# Altium schematic symbol library SparkFun-IC-Microcontroller.SCHLIB: 89 symbols (part 3 of 3)
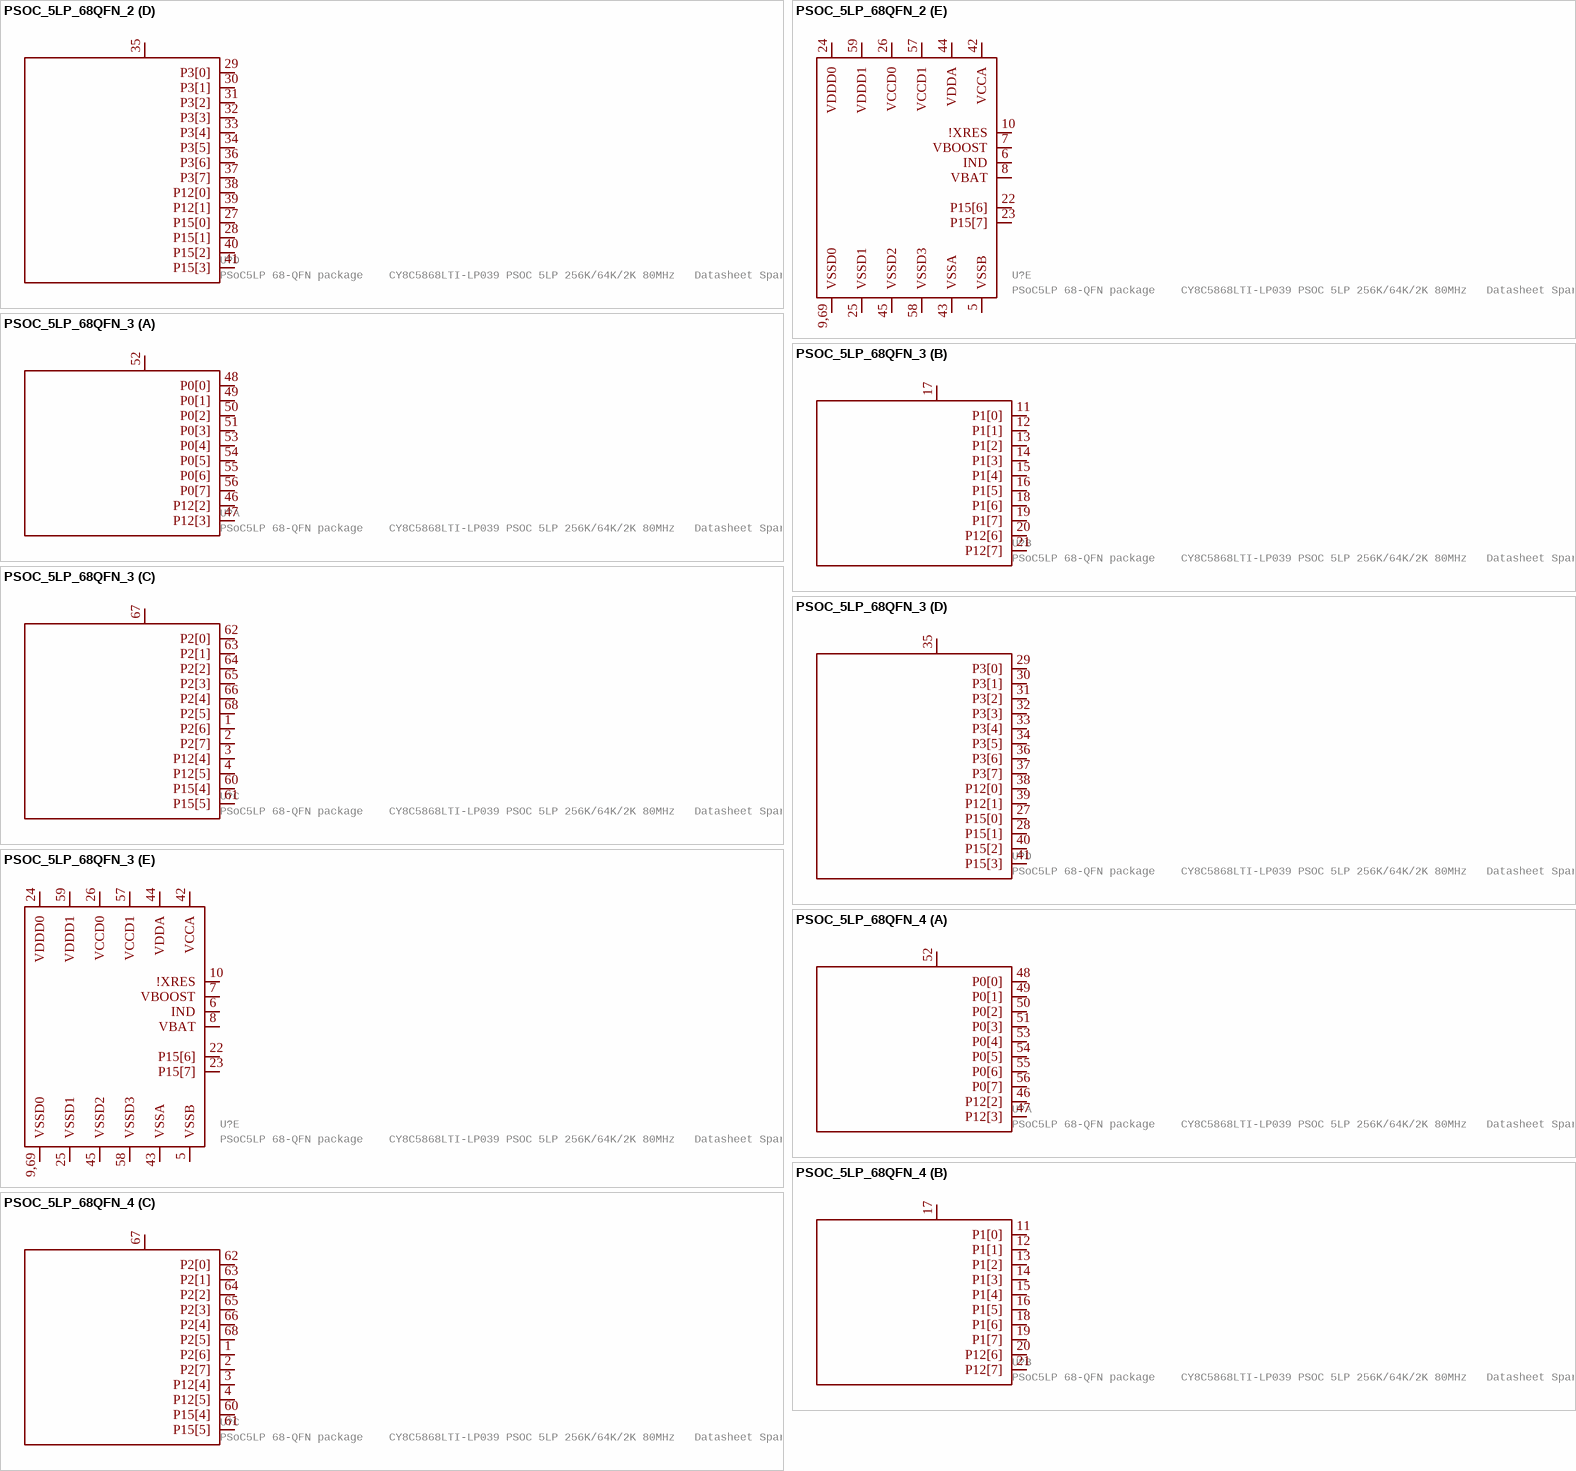
[diagram p26: symbols PSOC_5LP_68QFN_2 to PSOC_5LP_68QFN_4]

## PSOC_5LP_68QFN_2
designator U?, comment PSoC5LP 68-QFN package    CY8C5868LTI-LP039 PSOC 5LP 256K/64K/2K 80MHz   Datasheet SparkFun Products  FreeSoC2 Development Board - PSoC5LP (DEV-13229) -- Involved with change to new unposted revision
GateName_1: G1; SymbolName_1: CY8C58LP_68QFN_VDDIO0; GateName_2: G2; SymbolName_2: CY8C58LP_68QFN_VDDIO1; GateName_3: G3; SymbolName_3: CY8C58LP_68QFN_VDDIO2; GateName_4: G4; SymbolName_4: CY8C58LP_68QFN_VDDIO3; GateName_5: G5; SymbolName_5: CY8C58LP_68QFN_VGLOBAL; DeviceSetName: PSOC_5LP_68QFN; PROD_ID: IC-12391; LibraryName: SparkFun-IC-Microcontroller; Package: QFN-68
footprint QFN-68
part A pins: 46 P12[2] (io), 47 P12[3] (io), 48 P0[0] (io), 49 P0[1] (io), 50 P0[2] (io), 51 P0[3] (io), 52 VDDIO0 (io), 53 P0[4] (io), 54 P0[5] (io), 55 P0[6] (io), 56 P0[7] (io)
part B pins: 11 P1[0] (io), 12 P1[1] (io), 13 P1[2] (io), 14 P1[3] (io), 15 P1[4] (io), 16 P1[5] (io), 17 VDDIO1 (io), 18 P1[6] (io), 19 P1[7] (io), 20 P12[6] (io), 21 P12[7] (io)
part C pins: 1 P2[6] (io), 2 P2[7] (io), 3 P12[4] (io), 4 P12[5] (io), 60 P15[4] (io), 61 P15[5] (io), 62 P2[0] (io), 63 P2[1] (io), 64 P2[2] (io), 65 P2[3] (io), 66 P2[4] (io), 67 VDDIO2 (io), 68 P2[5] (io)
part D pins: 27 P15[0] (io), 28 P15[1] (io), 29 P3[0] (io), 30 P3[1] (io), 31 P3[2] (io), 32 P3[3] (io), 33 P3[4] (io), 34 P3[5] (io), 35 VDDIO3 (io), 36 P3[6] (io), 37 P3[7] (io), 38 P12[0] (io), 39 P12[1] (io), 40 P15[2] (io), 41 P15[3] (io)
part E pins: 5 VSSB (io), 6 IND (io), 7 VBOOST (io), 8 VBAT (io), 9,69 VSSD0 (io), 10 !XRES (io), 22 P15[6] (io), 23 P15[7] (io), 24 VDDD0 (io), 25 VSSD1 (io), 26 VCCD0 (io), 42 VCCA (io), 43 VSSA (io), 44 VDDA (io), 45 VSSD2 (io), 57 VCCD1 (io), 58 VSSD3 (io), 59 VDDD1 (io)

## PSOC_5LP_68QFN_3
designator U?, comment PSoC5LP 68-QFN package    CY8C5868LTI-LP039 PSOC 5LP 256K/64K/2K 80MHz   Datasheet SparkFun Products  FreeSoC2 Development Board - PSoC5LP (DEV-13229) -- Involved with change to new unposted revision
GateName_1: G1; SymbolName_1: CY8C58LP_68QFN_VDDIO0; GateName_2: G2; SymbolName_2: CY8C58LP_68QFN_VDDIO1; GateName_3: G3; SymbolName_3: CY8C58LP_68QFN_VDDIO2; GateName_4: G4; SymbolName_4: CY8C58LP_68QFN_VDDIO3; GateName_5: G5; SymbolName_5: CY8C58LP_68QFN_VGLOBAL; DeviceSetName: PSOC_5LP_68QFN; PROD_ID: IC-12391; LibraryName: SparkFun-IC-Microcontroller; Package: QFN-68
footprint QFN-68
part A pins: 46 P12[2] (io), 47 P12[3] (io), 48 P0[0] (io), 49 P0[1] (io), 50 P0[2] (io), 51 P0[3] (io), 52 VDDIO0 (io), 53 P0[4] (io), 54 P0[5] (io), 55 P0[6] (io), 56 P0[7] (io)
part B pins: 11 P1[0] (io), 12 P1[1] (io), 13 P1[2] (io), 14 P1[3] (io), 15 P1[4] (io), 16 P1[5] (io), 17 VDDIO1 (io), 18 P1[6] (io), 19 P1[7] (io), 20 P12[6] (io), 21 P12[7] (io)
part C pins: 1 P2[6] (io), 2 P2[7] (io), 3 P12[4] (io), 4 P12[5] (io), 60 P15[4] (io), 61 P15[5] (io), 62 P2[0] (io), 63 P2[1] (io), 64 P2[2] (io), 65 P2[3] (io), 66 P2[4] (io), 67 VDDIO2 (io), 68 P2[5] (io)
part D pins: 27 P15[0] (io), 28 P15[1] (io), 29 P3[0] (io), 30 P3[1] (io), 31 P3[2] (io), 32 P3[3] (io), 33 P3[4] (io), 34 P3[5] (io), 35 VDDIO3 (io), 36 P3[6] (io), 37 P3[7] (io), 38 P12[0] (io), 39 P12[1] (io), 40 P15[2] (io), 41 P15[3] (io)
part E pins: 5 VSSB (io), 6 IND (io), 7 VBOOST (io), 8 VBAT (io), 9,69 VSSD0 (io), 10 !XRES (io), 22 P15[6] (io), 23 P15[7] (io), 24 VDDD0 (io), 25 VSSD1 (io), 26 VCCD0 (io), 42 VCCA (io), 43 VSSA (io), 44 VDDA (io), 45 VSSD2 (io), 57 VCCD1 (io), 58 VSSD3 (io), 59 VDDD1 (io)

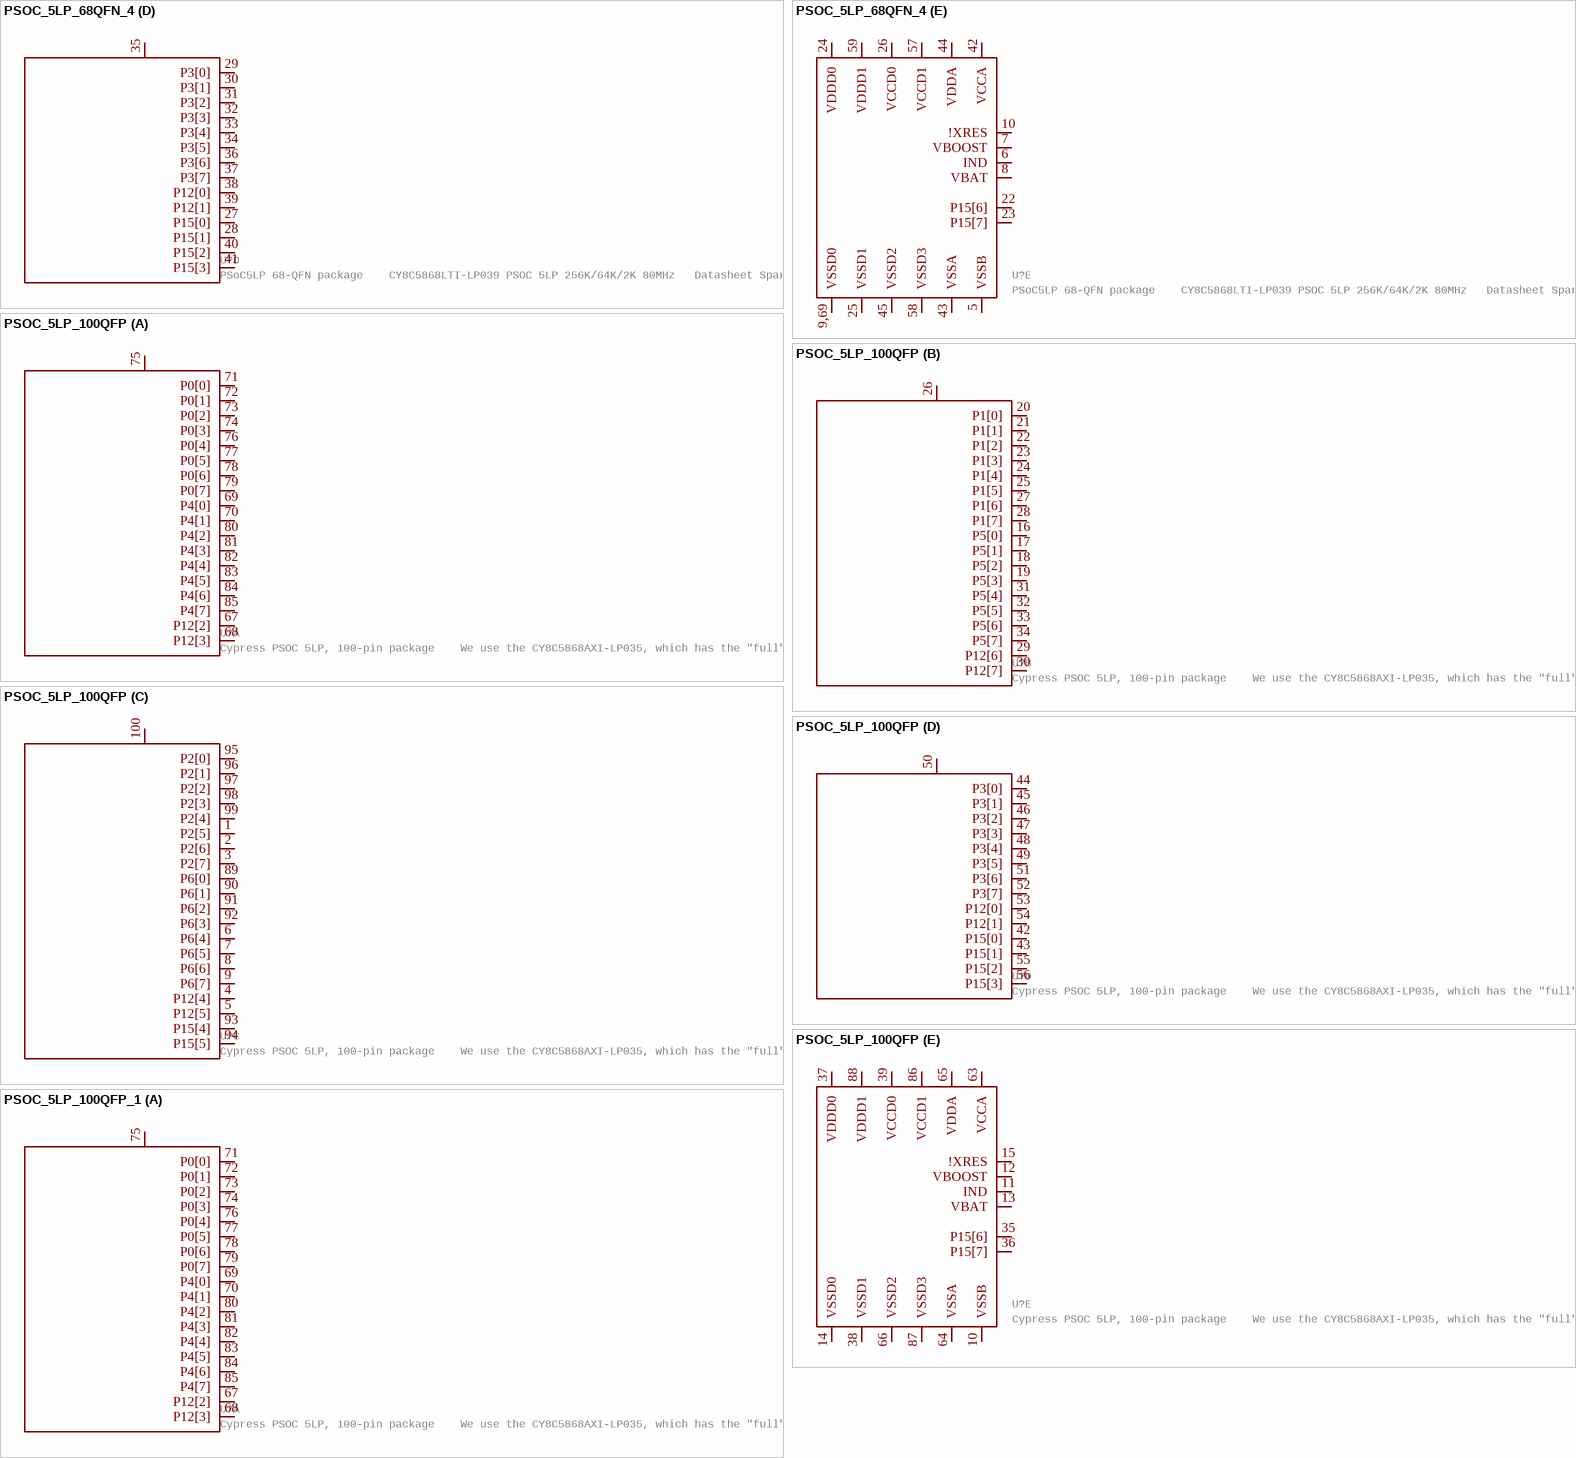
[diagram p18: symbols PSOC_5LP_68QFN_4 to PSOC_5LP_100QFP_1]

## PSOC_5LP_68QFN_4
designator U?, comment PSoC5LP 68-QFN package    CY8C5868LTI-LP039 PSOC 5LP 256K/64K/2K 80MHz   Datasheet SparkFun Products  FreeSoC2 Development Board - PSoC5LP (DEV-13229) -- Involved with change to new unposted revision
GateName_1: G1; SymbolName_1: CY8C58LP_68QFN_VDDIO0; GateName_2: G2; SymbolName_2: CY8C58LP_68QFN_VDDIO1; GateName_3: G3; SymbolName_3: CY8C58LP_68QFN_VDDIO2; GateName_4: G4; SymbolName_4: CY8C58LP_68QFN_VDDIO3; GateName_5: G5; SymbolName_5: CY8C58LP_68QFN_VGLOBAL; DeviceSetName: PSOC_5LP_68QFN; PROD_ID: IC-12391; LibraryName: SparkFun-IC-Microcontroller; Package: QFN-68
footprint QFN-68
part A pins: 46 P12[2] (io), 47 P12[3] (io), 48 P0[0] (io), 49 P0[1] (io), 50 P0[2] (io), 51 P0[3] (io), 52 VDDIO0 (io), 53 P0[4] (io), 54 P0[5] (io), 55 P0[6] (io), 56 P0[7] (io)
part B pins: 11 P1[0] (io), 12 P1[1] (io), 13 P1[2] (io), 14 P1[3] (io), 15 P1[4] (io), 16 P1[5] (io), 17 VDDIO1 (io), 18 P1[6] (io), 19 P1[7] (io), 20 P12[6] (io), 21 P12[7] (io)
part C pins: 1 P2[6] (io), 2 P2[7] (io), 3 P12[4] (io), 4 P12[5] (io), 60 P15[4] (io), 61 P15[5] (io), 62 P2[0] (io), 63 P2[1] (io), 64 P2[2] (io), 65 P2[3] (io), 66 P2[4] (io), 67 VDDIO2 (io), 68 P2[5] (io)
part D pins: 27 P15[0] (io), 28 P15[1] (io), 29 P3[0] (io), 30 P3[1] (io), 31 P3[2] (io), 32 P3[3] (io), 33 P3[4] (io), 34 P3[5] (io), 35 VDDIO3 (io), 36 P3[6] (io), 37 P3[7] (io), 38 P12[0] (io), 39 P12[1] (io), 40 P15[2] (io), 41 P15[3] (io)
part E pins: 5 VSSB (io), 6 IND (io), 7 VBOOST (io), 8 VBAT (io), 9,69 VSSD0 (io), 10 !XRES (io), 22 P15[6] (io), 23 P15[7] (io), 24 VDDD0 (io), 25 VSSD1 (io), 26 VCCD0 (io), 42 VCCA (io), 43 VSSA (io), 44 VDDA (io), 45 VSSD2 (io), 57 VCCD1 (io), 58 VSSD3 (io), 59 VDDD1 (io)

## PSOC_5LP_100QFP
designator U?, comment Cypress PSOC 5LP, 100-pin package    We use the CY8C5868AXI-LP035, which has the "full" feature set: - 256k flash - 64k SRAM - 2k EEPROM  - CAN - Full-speed USB - 67MHz operation   Datasheet SparkFun Products  FreeSoC2 Development Board - PSoC5LP (DEV-13229) -- Involved with change to new unposted revision
GateName_1: G1; SymbolName_1: CY8C58LP_100QFP_VDDIO0; GateName_2: G2; SymbolName_2: CY8C58LP_100QFP_VDDIO1; GateName_3: G3; SymbolName_3: CY8C58LP_100QFP_VDDIO2; GateName_4: G4; SymbolName_4: CY8C58LP_100QFP_VDDIO3; GateName_5: G5; SymbolName_5: CY8C58LP_100QFP_VGLOBAL; DeviceSetName: PSOC_5LP_100QFP; PROD_ID: IC-12190; LibraryName: SparkFun-IC-Microcontroller; Package: TQFP-100-14X14MM
footprint TQFP-100-14X14MM
part A pins: 67 P12[2] (io), 68 P12[3] (io), 69 P4[0] (io), 70 P4[1] (io), 71 P0[0] (io), 72 P0[1] (io), 73 P0[2] (io), 74 P0[3] (io), 75 VDDIO0 (io), 76 P0[4] (io), 77 P0[5] (io), 78 P0[6] (io), 79 P0[7] (io), 80 P4[2] (io), 81 P4[3] (io), 82 P4[4] (io), 83 P4[5] (io), 84 P4[6] (io), 85 P4[7] (io)
part B pins: 16 P5[0] (io), 17 P5[1] (io), 18 P5[2] (io), 19 P5[3] (io), 20 P1[0] (io), 21 P1[1] (io), 22 P1[2] (io), 23 P1[3] (io), 24 P1[4] (io), 25 P1[5] (io), 26 VDDIO1 (io), 27 P1[6] (io), 28 P1[7] (io), 29 P12[6] (io), 30 P12[7] (io), 31 P5[4] (io), 32 P5[5] (io), 33 P5[6] (io), 34 P5[7] (io)
part C pins: 1 P2[5] (io), 2 P2[6] (io), 3 P2[7] (io), 4 P12[4] (io), 5 P12[5] (io), 6 P6[4] (io), 7 P6[5] (io), 8 P6[6] (io), 9 P6[7] (io), 89 P6[0] (io), 90 P6[1] (io), 91 P6[2] (io), 92 P6[3] (io), 93 P15[4] (io), 94 P15[5] (io), 95 P2[0] (io), 96 P2[1] (io), 97 P2[2] (io), 98 P2[3] (io), 99 P2[4] (io), 100 VDDIO2 (io)
part D pins: 42 P15[0] (io), 43 P15[1] (io), 44 P3[0] (io), 45 P3[1] (io), 46 P3[2] (io), 47 P3[3] (io), 48 P3[4] (io), 49 P3[5] (io), 50 VDDIO3 (io), 51 P3[6] (io), 52 P3[7] (io), 53 P12[0] (io), 54 P12[1] (io), 55 P15[2] (io), 56 P15[3] (io)
part E pins: 10 VSSB (io), 11 IND (io), 12 VBOOST (io), 13 VBAT (io), 14 VSSD0 (io), 15 !XRES (io), 35 P15[6] (io), 36 P15[7] (io), 37 VDDD0 (io), 38 VSSD1 (io), 39 VCCD0 (io), 63 VCCA (io), 64 VSSA (io), 65 VDDA (io), 66 VSSD2 (io), 86 VCCD1 (io), 87 VSSD3 (io), 88 VDDD1 (io)

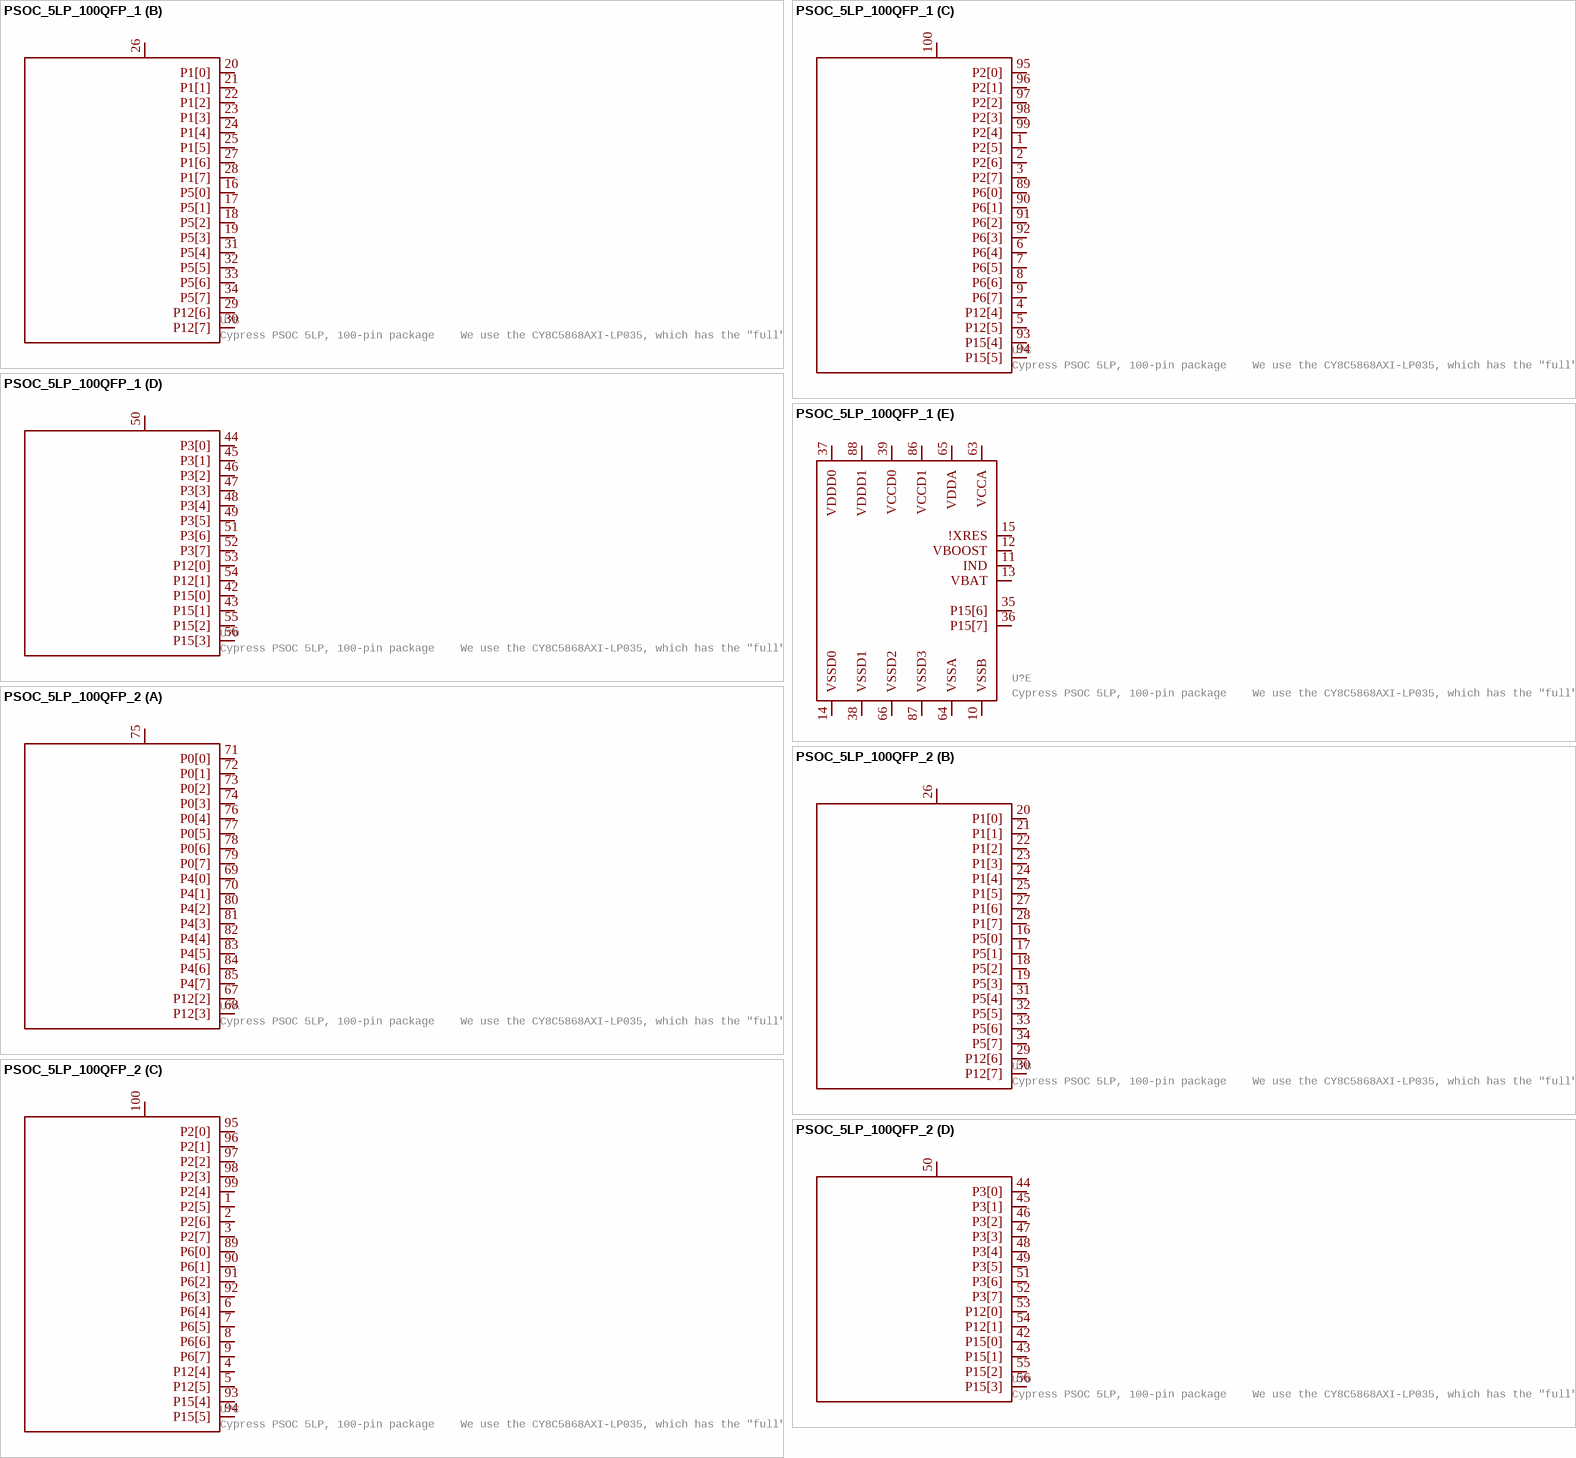
[diagram p19: symbols PSOC_5LP_100QFP_1 to PSOC_5LP_100QFP_2]

## PSOC_5LP_100QFP_1
designator U?, comment Cypress PSOC 5LP, 100-pin package    We use the CY8C5868AXI-LP035, which has the "full" feature set: - 256k flash - 64k SRAM - 2k EEPROM  - CAN - Full-speed USB - 67MHz operation   Datasheet SparkFun Products  FreeSoC2 Development Board - PSoC5LP (DEV-13229) -- Involved with change to new unposted revision
GateName_1: G1; SymbolName_1: CY8C58LP_100QFP_VDDIO0; GateName_2: G2; SymbolName_2: CY8C58LP_100QFP_VDDIO1; GateName_3: G3; SymbolName_3: CY8C58LP_100QFP_VDDIO2; GateName_4: G4; SymbolName_4: CY8C58LP_100QFP_VDDIO3; GateName_5: G5; SymbolName_5: CY8C58LP_100QFP_VGLOBAL; DeviceSetName: PSOC_5LP_100QFP; PROD_ID: IC-12190; LibraryName: SparkFun-IC-Microcontroller; Package: TQFP-100-14X14MM
footprint TQFP-100-14X14MM
part A pins: 67 P12[2] (io), 68 P12[3] (io), 69 P4[0] (io), 70 P4[1] (io), 71 P0[0] (io), 72 P0[1] (io), 73 P0[2] (io), 74 P0[3] (io), 75 VDDIO0 (io), 76 P0[4] (io), 77 P0[5] (io), 78 P0[6] (io), 79 P0[7] (io), 80 P4[2] (io), 81 P4[3] (io), 82 P4[4] (io), 83 P4[5] (io), 84 P4[6] (io), 85 P4[7] (io)
part B pins: 16 P5[0] (io), 17 P5[1] (io), 18 P5[2] (io), 19 P5[3] (io), 20 P1[0] (io), 21 P1[1] (io), 22 P1[2] (io), 23 P1[3] (io), 24 P1[4] (io), 25 P1[5] (io), 26 VDDIO1 (io), 27 P1[6] (io), 28 P1[7] (io), 29 P12[6] (io), 30 P12[7] (io), 31 P5[4] (io), 32 P5[5] (io), 33 P5[6] (io), 34 P5[7] (io)
part C pins: 1 P2[5] (io), 2 P2[6] (io), 3 P2[7] (io), 4 P12[4] (io), 5 P12[5] (io), 6 P6[4] (io), 7 P6[5] (io), 8 P6[6] (io), 9 P6[7] (io), 89 P6[0] (io), 90 P6[1] (io), 91 P6[2] (io), 92 P6[3] (io), 93 P15[4] (io), 94 P15[5] (io), 95 P2[0] (io), 96 P2[1] (io), 97 P2[2] (io), 98 P2[3] (io), 99 P2[4] (io), 100 VDDIO2 (io)
part D pins: 42 P15[0] (io), 43 P15[1] (io), 44 P3[0] (io), 45 P3[1] (io), 46 P3[2] (io), 47 P3[3] (io), 48 P3[4] (io), 49 P3[5] (io), 50 VDDIO3 (io), 51 P3[6] (io), 52 P3[7] (io), 53 P12[0] (io), 54 P12[1] (io), 55 P15[2] (io), 56 P15[3] (io)
part E pins: 10 VSSB (io), 11 IND (io), 12 VBOOST (io), 13 VBAT (io), 14 VSSD0 (io), 15 !XRES (io), 35 P15[6] (io), 36 P15[7] (io), 37 VDDD0 (io), 38 VSSD1 (io), 39 VCCD0 (io), 63 VCCA (io), 64 VSSA (io), 65 VDDA (io), 66 VSSD2 (io), 86 VCCD1 (io), 87 VSSD3 (io), 88 VDDD1 (io)

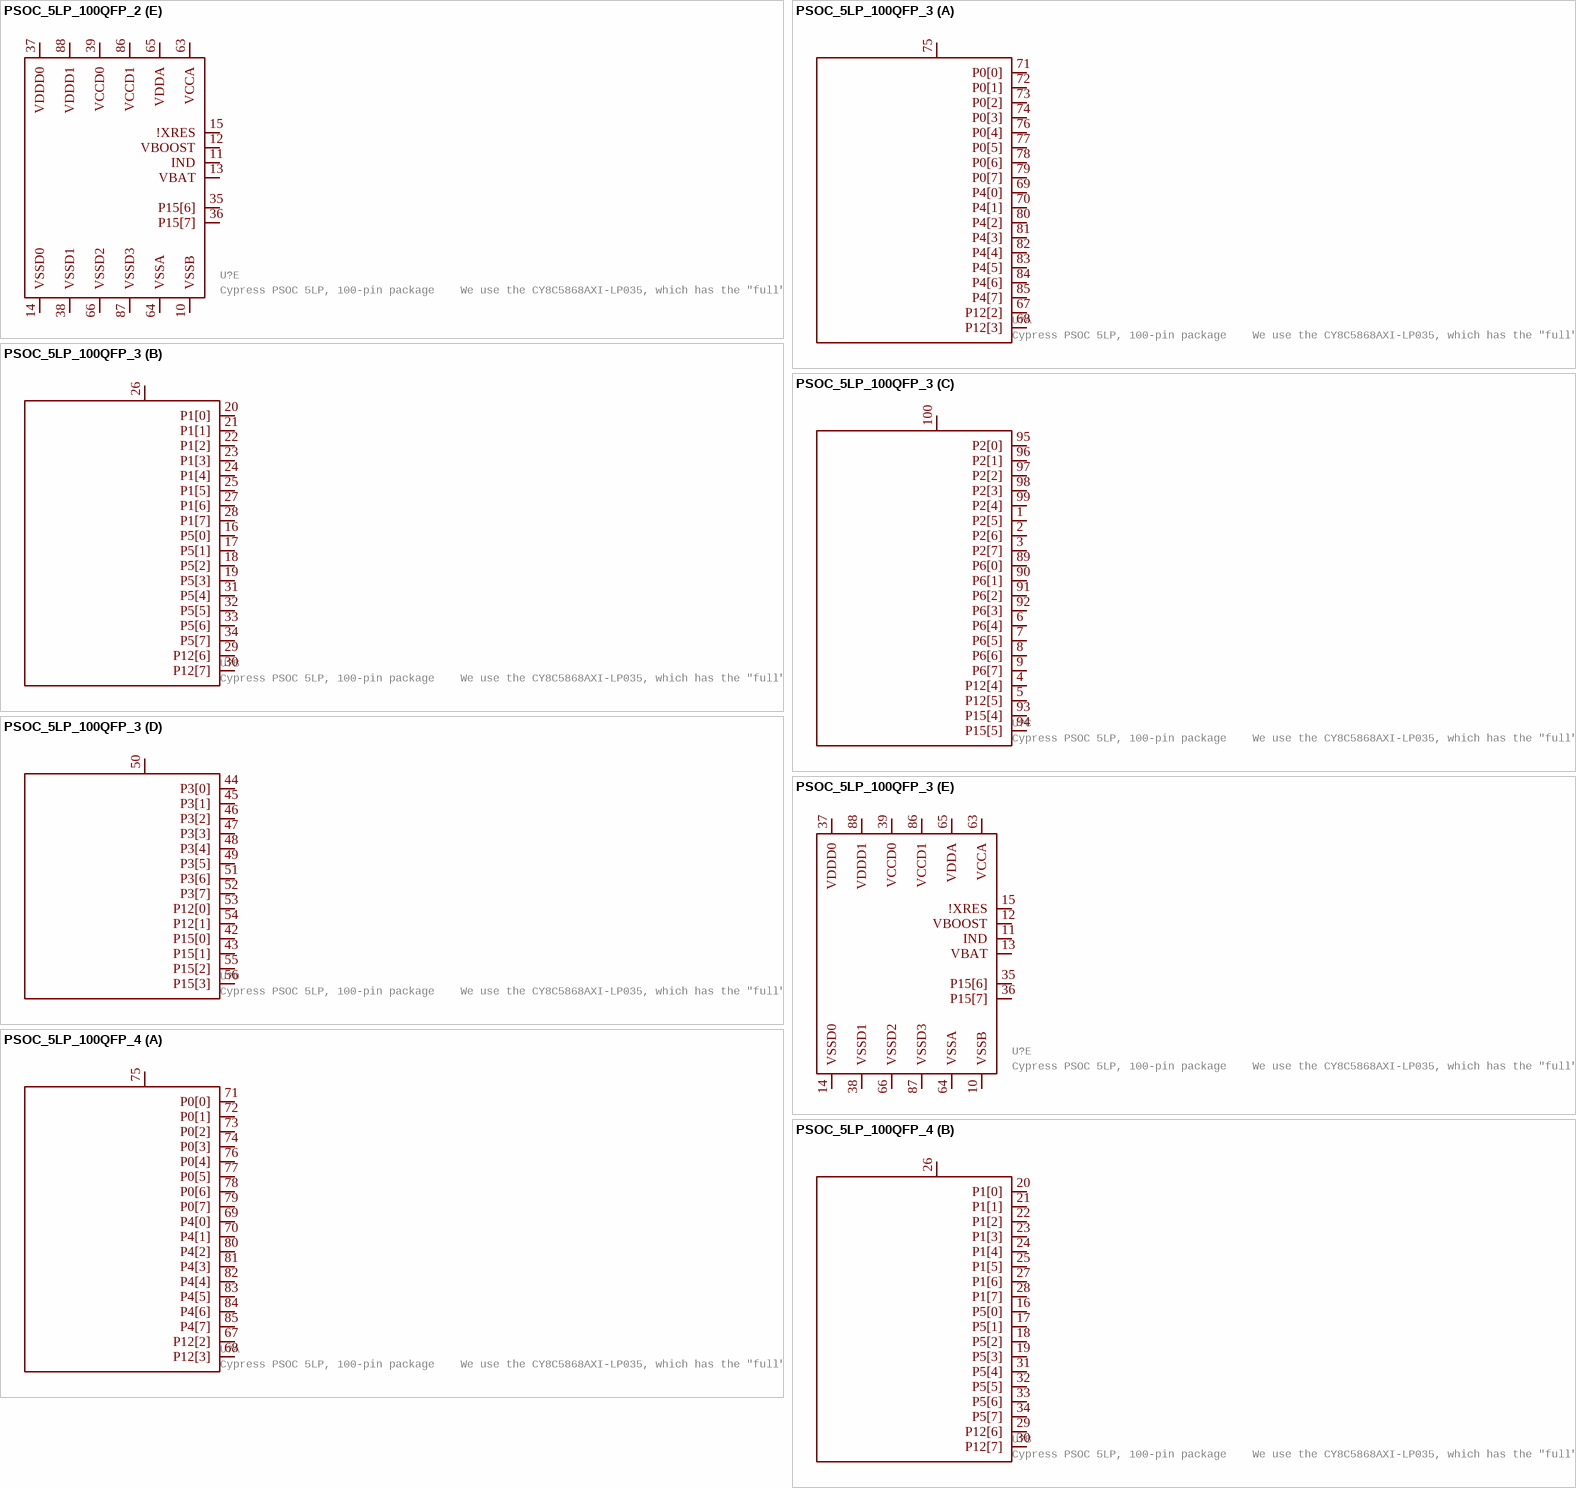
[diagram p20: symbols PSOC_5LP_100QFP_2 to PSOC_5LP_100QFP_4]

## PSOC_5LP_100QFP_2
designator U?, comment Cypress PSOC 5LP, 100-pin package    We use the CY8C5868AXI-LP035, which has the "full" feature set: - 256k flash - 64k SRAM - 2k EEPROM  - CAN - Full-speed USB - 67MHz operation   Datasheet SparkFun Products  FreeSoC2 Development Board - PSoC5LP (DEV-13229) -- Involved with change to new unposted revision
GateName_1: G1; SymbolName_1: CY8C58LP_100QFP_VDDIO0; GateName_2: G2; SymbolName_2: CY8C58LP_100QFP_VDDIO1; GateName_3: G3; SymbolName_3: CY8C58LP_100QFP_VDDIO2; GateName_4: G4; SymbolName_4: CY8C58LP_100QFP_VDDIO3; GateName_5: G5; SymbolName_5: CY8C58LP_100QFP_VGLOBAL; DeviceSetName: PSOC_5LP_100QFP; PROD_ID: IC-12190; LibraryName: SparkFun-IC-Microcontroller; Package: TQFP-100-14X14MM
footprint TQFP-100-14X14MM
part A pins: 67 P12[2] (io), 68 P12[3] (io), 69 P4[0] (io), 70 P4[1] (io), 71 P0[0] (io), 72 P0[1] (io), 73 P0[2] (io), 74 P0[3] (io), 75 VDDIO0 (io), 76 P0[4] (io), 77 P0[5] (io), 78 P0[6] (io), 79 P0[7] (io), 80 P4[2] (io), 81 P4[3] (io), 82 P4[4] (io), 83 P4[5] (io), 84 P4[6] (io), 85 P4[7] (io)
part B pins: 16 P5[0] (io), 17 P5[1] (io), 18 P5[2] (io), 19 P5[3] (io), 20 P1[0] (io), 21 P1[1] (io), 22 P1[2] (io), 23 P1[3] (io), 24 P1[4] (io), 25 P1[5] (io), 26 VDDIO1 (io), 27 P1[6] (io), 28 P1[7] (io), 29 P12[6] (io), 30 P12[7] (io), 31 P5[4] (io), 32 P5[5] (io), 33 P5[6] (io), 34 P5[7] (io)
part C pins: 1 P2[5] (io), 2 P2[6] (io), 3 P2[7] (io), 4 P12[4] (io), 5 P12[5] (io), 6 P6[4] (io), 7 P6[5] (io), 8 P6[6] (io), 9 P6[7] (io), 89 P6[0] (io), 90 P6[1] (io), 91 P6[2] (io), 92 P6[3] (io), 93 P15[4] (io), 94 P15[5] (io), 95 P2[0] (io), 96 P2[1] (io), 97 P2[2] (io), 98 P2[3] (io), 99 P2[4] (io), 100 VDDIO2 (io)
part D pins: 42 P15[0] (io), 43 P15[1] (io), 44 P3[0] (io), 45 P3[1] (io), 46 P3[2] (io), 47 P3[3] (io), 48 P3[4] (io), 49 P3[5] (io), 50 VDDIO3 (io), 51 P3[6] (io), 52 P3[7] (io), 53 P12[0] (io), 54 P12[1] (io), 55 P15[2] (io), 56 P15[3] (io)
part E pins: 10 VSSB (io), 11 IND (io), 12 VBOOST (io), 13 VBAT (io), 14 VSSD0 (io), 15 !XRES (io), 35 P15[6] (io), 36 P15[7] (io), 37 VDDD0 (io), 38 VSSD1 (io), 39 VCCD0 (io), 63 VCCA (io), 64 VSSA (io), 65 VDDA (io), 66 VSSD2 (io), 86 VCCD1 (io), 87 VSSD3 (io), 88 VDDD1 (io)

## PSOC_5LP_100QFP_3
designator U?, comment Cypress PSOC 5LP, 100-pin package    We use the CY8C5868AXI-LP035, which has the "full" feature set: - 256k flash - 64k SRAM - 2k EEPROM  - CAN - Full-speed USB - 67MHz operation   Datasheet SparkFun Products  FreeSoC2 Development Board - PSoC5LP (DEV-13229) -- Involved with change to new unposted revision
GateName_1: G1; SymbolName_1: CY8C58LP_100QFP_VDDIO0; GateName_2: G2; SymbolName_2: CY8C58LP_100QFP_VDDIO1; GateName_3: G3; SymbolName_3: CY8C58LP_100QFP_VDDIO2; GateName_4: G4; SymbolName_4: CY8C58LP_100QFP_VDDIO3; GateName_5: G5; SymbolName_5: CY8C58LP_100QFP_VGLOBAL; DeviceSetName: PSOC_5LP_100QFP; PROD_ID: IC-12190; LibraryName: SparkFun-IC-Microcontroller; Package: TQFP-100-14X14MM
footprint TQFP-100-14X14MM
part A pins: 67 P12[2] (io), 68 P12[3] (io), 69 P4[0] (io), 70 P4[1] (io), 71 P0[0] (io), 72 P0[1] (io), 73 P0[2] (io), 74 P0[3] (io), 75 VDDIO0 (io), 76 P0[4] (io), 77 P0[5] (io), 78 P0[6] (io), 79 P0[7] (io), 80 P4[2] (io), 81 P4[3] (io), 82 P4[4] (io), 83 P4[5] (io), 84 P4[6] (io), 85 P4[7] (io)
part B pins: 16 P5[0] (io), 17 P5[1] (io), 18 P5[2] (io), 19 P5[3] (io), 20 P1[0] (io), 21 P1[1] (io), 22 P1[2] (io), 23 P1[3] (io), 24 P1[4] (io), 25 P1[5] (io), 26 VDDIO1 (io), 27 P1[6] (io), 28 P1[7] (io), 29 P12[6] (io), 30 P12[7] (io), 31 P5[4] (io), 32 P5[5] (io), 33 P5[6] (io), 34 P5[7] (io)
part C pins: 1 P2[5] (io), 2 P2[6] (io), 3 P2[7] (io), 4 P12[4] (io), 5 P12[5] (io), 6 P6[4] (io), 7 P6[5] (io), 8 P6[6] (io), 9 P6[7] (io), 89 P6[0] (io), 90 P6[1] (io), 91 P6[2] (io), 92 P6[3] (io), 93 P15[4] (io), 94 P15[5] (io), 95 P2[0] (io), 96 P2[1] (io), 97 P2[2] (io), 98 P2[3] (io), 99 P2[4] (io), 100 VDDIO2 (io)
part D pins: 42 P15[0] (io), 43 P15[1] (io), 44 P3[0] (io), 45 P3[1] (io), 46 P3[2] (io), 47 P3[3] (io), 48 P3[4] (io), 49 P3[5] (io), 50 VDDIO3 (io), 51 P3[6] (io), 52 P3[7] (io), 53 P12[0] (io), 54 P12[1] (io), 55 P15[2] (io), 56 P15[3] (io)
part E pins: 10 VSSB (io), 11 IND (io), 12 VBOOST (io), 13 VBAT (io), 14 VSSD0 (io), 15 !XRES (io), 35 P15[6] (io), 36 P15[7] (io), 37 VDDD0 (io), 38 VSSD1 (io), 39 VCCD0 (io), 63 VCCA (io), 64 VSSA (io), 65 VDDA (io), 66 VSSD2 (io), 86 VCCD1 (io), 87 VSSD3 (io), 88 VDDD1 (io)

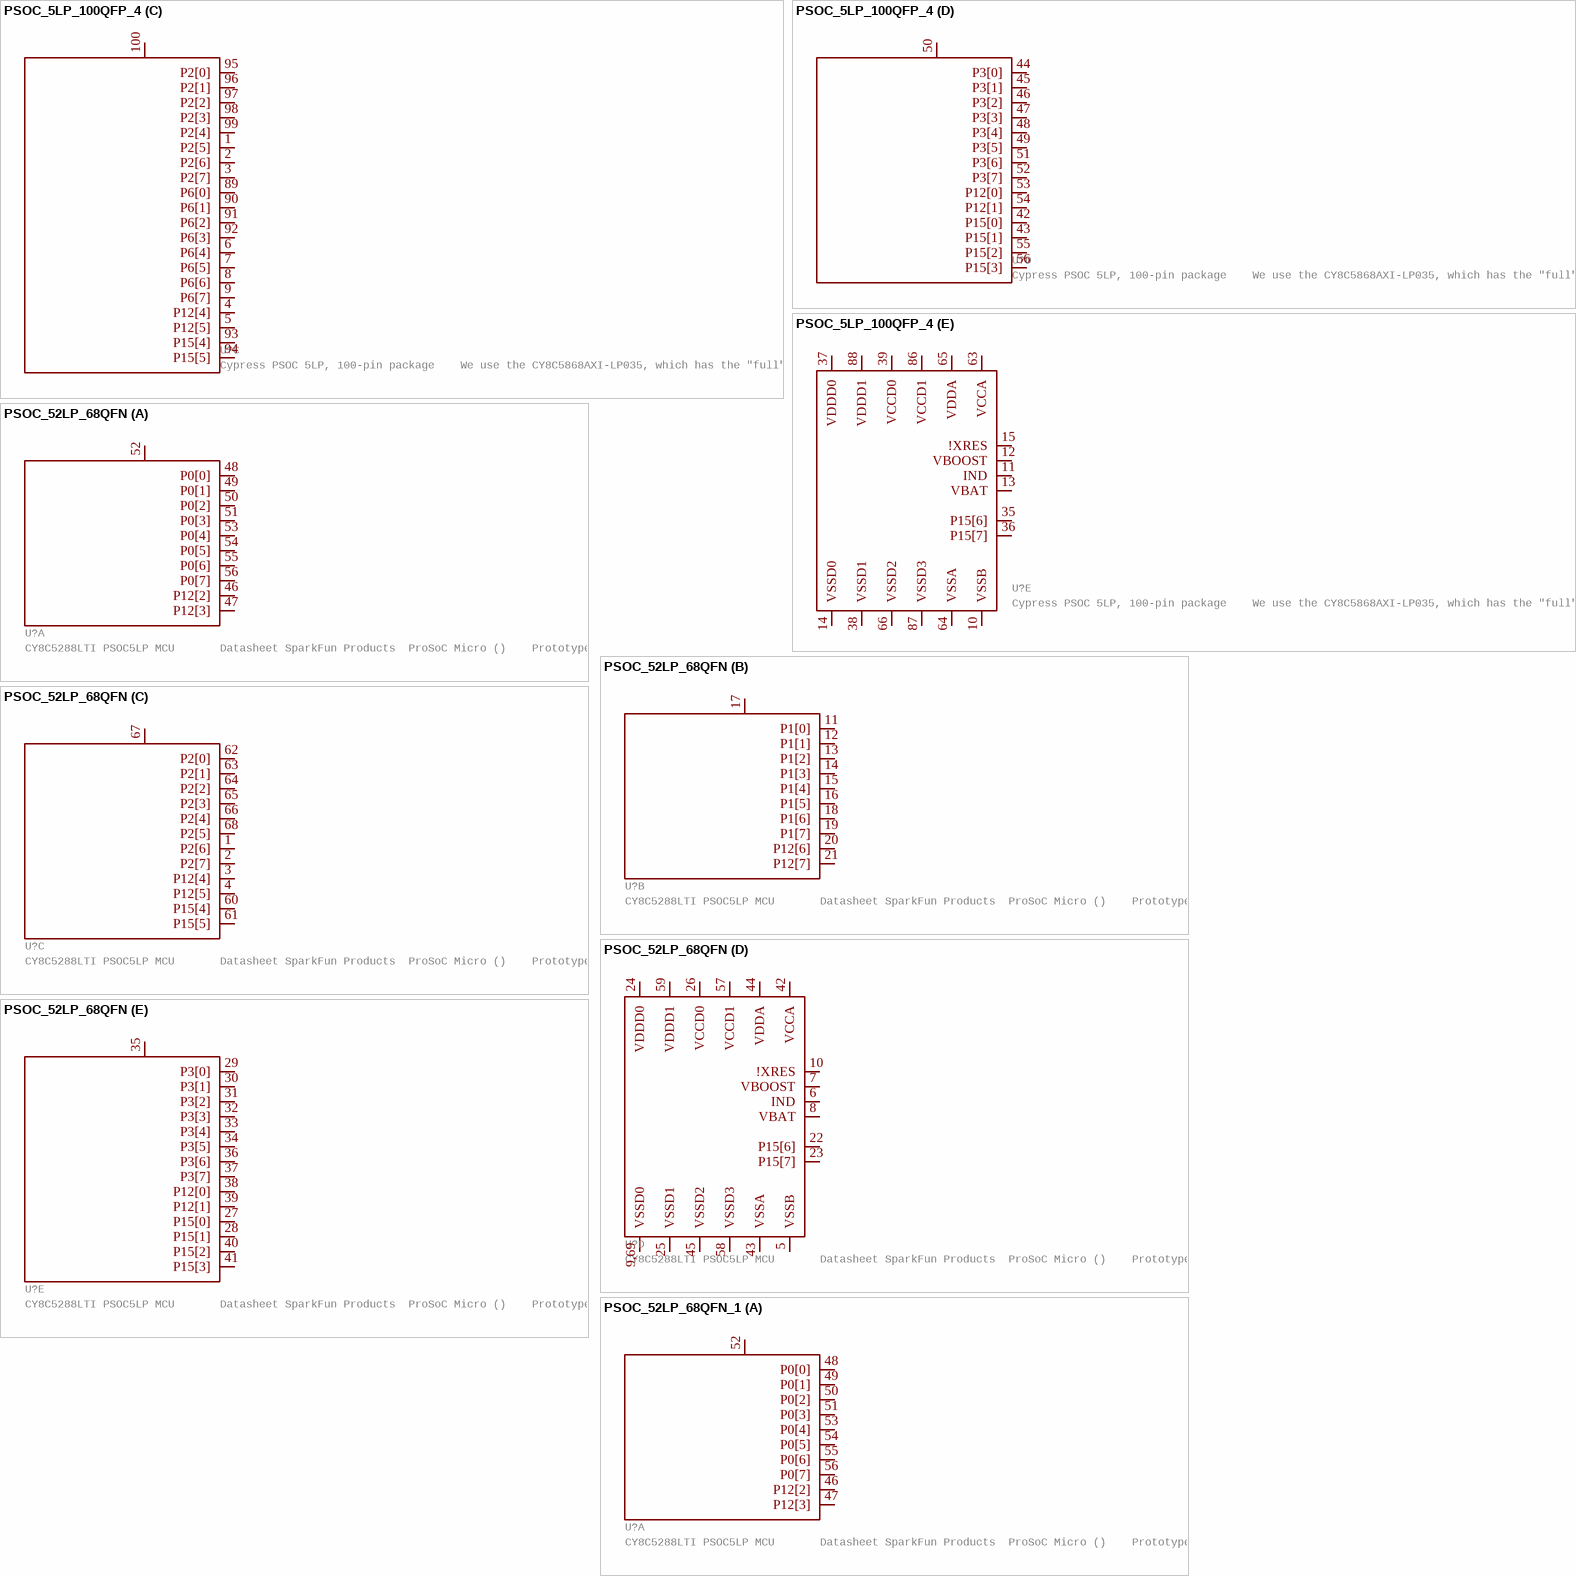
[diagram p21: symbols PSOC_5LP_100QFP_4 to PSOC_52LP_68QFN_1]

## PSOC_5LP_100QFP_4
designator U?, comment Cypress PSOC 5LP, 100-pin package    We use the CY8C5868AXI-LP035, which has the "full" feature set: - 256k flash - 64k SRAM - 2k EEPROM  - CAN - Full-speed USB - 67MHz operation   Datasheet SparkFun Products  FreeSoC2 Development Board - PSoC5LP (DEV-13229) -- Involved with change to new unposted revision
GateName_1: G1; SymbolName_1: CY8C58LP_100QFP_VDDIO0; GateName_2: G2; SymbolName_2: CY8C58LP_100QFP_VDDIO1; GateName_3: G3; SymbolName_3: CY8C58LP_100QFP_VDDIO2; GateName_4: G4; SymbolName_4: CY8C58LP_100QFP_VDDIO3; GateName_5: G5; SymbolName_5: CY8C58LP_100QFP_VGLOBAL; DeviceSetName: PSOC_5LP_100QFP; PROD_ID: IC-12190; LibraryName: SparkFun-IC-Microcontroller; Package: TQFP-100-14X14MM
footprint TQFP-100-14X14MM
part A pins: 67 P12[2] (io), 68 P12[3] (io), 69 P4[0] (io), 70 P4[1] (io), 71 P0[0] (io), 72 P0[1] (io), 73 P0[2] (io), 74 P0[3] (io), 75 VDDIO0 (io), 76 P0[4] (io), 77 P0[5] (io), 78 P0[6] (io), 79 P0[7] (io), 80 P4[2] (io), 81 P4[3] (io), 82 P4[4] (io), 83 P4[5] (io), 84 P4[6] (io), 85 P4[7] (io)
part B pins: 16 P5[0] (io), 17 P5[1] (io), 18 P5[2] (io), 19 P5[3] (io), 20 P1[0] (io), 21 P1[1] (io), 22 P1[2] (io), 23 P1[3] (io), 24 P1[4] (io), 25 P1[5] (io), 26 VDDIO1 (io), 27 P1[6] (io), 28 P1[7] (io), 29 P12[6] (io), 30 P12[7] (io), 31 P5[4] (io), 32 P5[5] (io), 33 P5[6] (io), 34 P5[7] (io)
part C pins: 1 P2[5] (io), 2 P2[6] (io), 3 P2[7] (io), 4 P12[4] (io), 5 P12[5] (io), 6 P6[4] (io), 7 P6[5] (io), 8 P6[6] (io), 9 P6[7] (io), 89 P6[0] (io), 90 P6[1] (io), 91 P6[2] (io), 92 P6[3] (io), 93 P15[4] (io), 94 P15[5] (io), 95 P2[0] (io), 96 P2[1] (io), 97 P2[2] (io), 98 P2[3] (io), 99 P2[4] (io), 100 VDDIO2 (io)
part D pins: 42 P15[0] (io), 43 P15[1] (io), 44 P3[0] (io), 45 P3[1] (io), 46 P3[2] (io), 47 P3[3] (io), 48 P3[4] (io), 49 P3[5] (io), 50 VDDIO3 (io), 51 P3[6] (io), 52 P3[7] (io), 53 P12[0] (io), 54 P12[1] (io), 55 P15[2] (io), 56 P15[3] (io)
part E pins: 10 VSSB (io), 11 IND (io), 12 VBOOST (io), 13 VBAT (io), 14 VSSD0 (io), 15 !XRES (io), 35 P15[6] (io), 36 P15[7] (io), 37 VDDD0 (io), 38 VSSD1 (io), 39 VCCD0 (io), 63 VCCA (io), 64 VSSA (io), 65 VDDA (io), 66 VSSD2 (io), 86 VCCD1 (io), 87 VSSD3 (io), 88 VDDD1 (io)

## PSOC_52LP_68QFN
designator U?, comment CY8C5288LTI PSOC5LP MCU       Datasheet SparkFun Products  ProSoC Micro ()    Prototype in process - do keep!
GateName_1: G1; SymbolName_1: CY8C52LP_68QFN_VDDIO0; GateName_2: G2; SymbolName_2: CY8C52LP_68QFN_VDDIO1; GateName_3: G3; SymbolName_3: CY8C52LP_68QFN_VDDIO2; GateName_4: G5; SymbolName_4: CY8C52LP_68QFN_VGLOBAL; GateName_5: G4; SymbolName_5: CY8C52LP_68QFN_VDDIO3; DeviceSetName: PSOC_52LP_68QFN; PROD_ID: IC-13261; LibraryName: SparkFun-IC-Microcontroller; Package: QFN-68
footprint QFN-68
part A pins: 46 P12[2] (io), 47 P12[3] (io), 48 P0[0] (io), 49 P0[1] (io), 50 P0[2] (io), 51 P0[3] (io), 52 VDDIO0 (io), 53 P0[4] (io), 54 P0[5] (io), 55 P0[6] (io), 56 P0[7] (io)
part B pins: 11 P1[0] (io), 12 P1[1] (io), 13 P1[2] (io), 14 P1[3] (io), 15 P1[4] (io), 16 P1[5] (io), 17 VDDIO1 (io), 18 P1[6] (io), 19 P1[7] (io), 20 P12[6] (io), 21 P12[7] (io)
part C pins: 1 P2[6] (io), 2 P2[7] (io), 3 P12[4] (io), 4 P12[5] (io), 60 P15[4] (io), 61 P15[5] (io), 62 P2[0] (io), 63 P2[1] (io), 64 P2[2] (io), 65 P2[3] (io), 66 P2[4] (io), 67 VDDIO2 (io), 68 P2[5] (io)
part D pins: 5 VSSB (io), 6 IND (io), 7 VBOOST (io), 8 VBAT (io), 9,69 VSSD0 (io), 10 !XRES (io), 22 P15[6] (io), 23 P15[7] (io), 24 VDDD0 (io), 25 VSSD1 (io), 26 VCCD0 (io), 42 VCCA (io), 43 VSSA (io), 44 VDDA (io), 45 VSSD2 (io), 57 VCCD1 (io), 58 VSSD3 (io), 59 VDDD1 (io)
part E pins: 27 P15[0] (io), 28 P15[1] (io), 29 P3[0] (io), 30 P3[1] (io), 31 P3[2] (io), 32 P3[3] (io), 33 P3[4] (io), 34 P3[5] (io), 35 VDDIO3 (io), 36 P3[6] (io), 37 P3[7] (io), 38 P12[0] (io), 39 P12[1] (io), 40 P15[2] (io), 41 P15[3] (io)

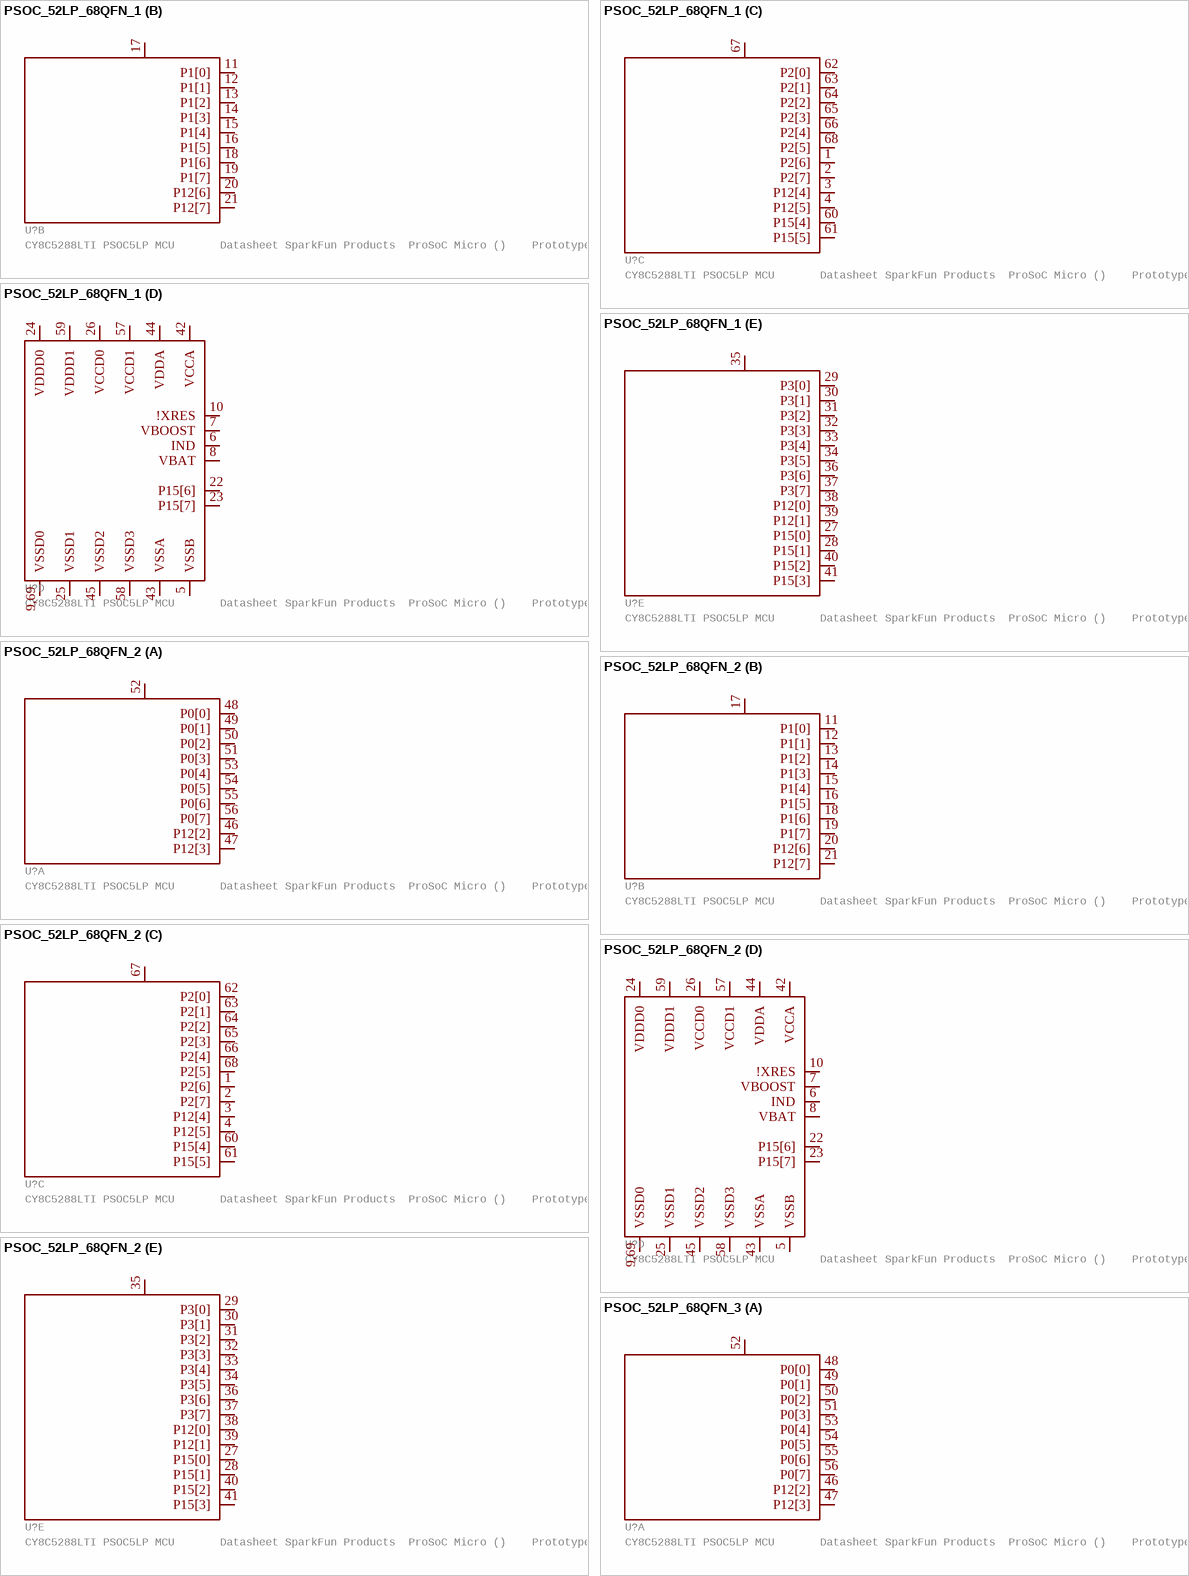
[diagram p22: symbols PSOC_52LP_68QFN_1 to PSOC_52LP_68QFN_3]

## PSOC_52LP_68QFN_1
designator U?, comment CY8C5288LTI PSOC5LP MCU       Datasheet SparkFun Products  ProSoC Micro ()    Prototype in process - do keep!
GateName_1: G1; SymbolName_1: CY8C52LP_68QFN_VDDIO0; GateName_2: G2; SymbolName_2: CY8C52LP_68QFN_VDDIO1; GateName_3: G3; SymbolName_3: CY8C52LP_68QFN_VDDIO2; GateName_4: G5; SymbolName_4: CY8C52LP_68QFN_VGLOBAL; GateName_5: G4; SymbolName_5: CY8C52LP_68QFN_VDDIO3; DeviceSetName: PSOC_52LP_68QFN; PROD_ID: IC-13261; LibraryName: SparkFun-IC-Microcontroller; Package: QFN-68
footprint QFN-68
part A pins: 46 P12[2] (io), 47 P12[3] (io), 48 P0[0] (io), 49 P0[1] (io), 50 P0[2] (io), 51 P0[3] (io), 52 VDDIO0 (io), 53 P0[4] (io), 54 P0[5] (io), 55 P0[6] (io), 56 P0[7] (io)
part B pins: 11 P1[0] (io), 12 P1[1] (io), 13 P1[2] (io), 14 P1[3] (io), 15 P1[4] (io), 16 P1[5] (io), 17 VDDIO1 (io), 18 P1[6] (io), 19 P1[7] (io), 20 P12[6] (io), 21 P12[7] (io)
part C pins: 1 P2[6] (io), 2 P2[7] (io), 3 P12[4] (io), 4 P12[5] (io), 60 P15[4] (io), 61 P15[5] (io), 62 P2[0] (io), 63 P2[1] (io), 64 P2[2] (io), 65 P2[3] (io), 66 P2[4] (io), 67 VDDIO2 (io), 68 P2[5] (io)
part D pins: 5 VSSB (io), 6 IND (io), 7 VBOOST (io), 8 VBAT (io), 9,69 VSSD0 (io), 10 !XRES (io), 22 P15[6] (io), 23 P15[7] (io), 24 VDDD0 (io), 25 VSSD1 (io), 26 VCCD0 (io), 42 VCCA (io), 43 VSSA (io), 44 VDDA (io), 45 VSSD2 (io), 57 VCCD1 (io), 58 VSSD3 (io), 59 VDDD1 (io)
part E pins: 27 P15[0] (io), 28 P15[1] (io), 29 P3[0] (io), 30 P3[1] (io), 31 P3[2] (io), 32 P3[3] (io), 33 P3[4] (io), 34 P3[5] (io), 35 VDDIO3 (io), 36 P3[6] (io), 37 P3[7] (io), 38 P12[0] (io), 39 P12[1] (io), 40 P15[2] (io), 41 P15[3] (io)

## PSOC_52LP_68QFN_2
designator U?, comment CY8C5288LTI PSOC5LP MCU       Datasheet SparkFun Products  ProSoC Micro ()    Prototype in process - do keep!
GateName_1: G1; SymbolName_1: CY8C52LP_68QFN_VDDIO0; GateName_2: G2; SymbolName_2: CY8C52LP_68QFN_VDDIO1; GateName_3: G3; SymbolName_3: CY8C52LP_68QFN_VDDIO2; GateName_4: G5; SymbolName_4: CY8C52LP_68QFN_VGLOBAL; GateName_5: G4; SymbolName_5: CY8C52LP_68QFN_VDDIO3; DeviceSetName: PSOC_52LP_68QFN; PROD_ID: IC-13261; LibraryName: SparkFun-IC-Microcontroller; Package: QFN-68
footprint QFN-68
part A pins: 46 P12[2] (io), 47 P12[3] (io), 48 P0[0] (io), 49 P0[1] (io), 50 P0[2] (io), 51 P0[3] (io), 52 VDDIO0 (io), 53 P0[4] (io), 54 P0[5] (io), 55 P0[6] (io), 56 P0[7] (io)
part B pins: 11 P1[0] (io), 12 P1[1] (io), 13 P1[2] (io), 14 P1[3] (io), 15 P1[4] (io), 16 P1[5] (io), 17 VDDIO1 (io), 18 P1[6] (io), 19 P1[7] (io), 20 P12[6] (io), 21 P12[7] (io)
part C pins: 1 P2[6] (io), 2 P2[7] (io), 3 P12[4] (io), 4 P12[5] (io), 60 P15[4] (io), 61 P15[5] (io), 62 P2[0] (io), 63 P2[1] (io), 64 P2[2] (io), 65 P2[3] (io), 66 P2[4] (io), 67 VDDIO2 (io), 68 P2[5] (io)
part D pins: 5 VSSB (io), 6 IND (io), 7 VBOOST (io), 8 VBAT (io), 9,69 VSSD0 (io), 10 !XRES (io), 22 P15[6] (io), 23 P15[7] (io), 24 VDDD0 (io), 25 VSSD1 (io), 26 VCCD0 (io), 42 VCCA (io), 43 VSSA (io), 44 VDDA (io), 45 VSSD2 (io), 57 VCCD1 (io), 58 VSSD3 (io), 59 VDDD1 (io)
part E pins: 27 P15[0] (io), 28 P15[1] (io), 29 P3[0] (io), 30 P3[1] (io), 31 P3[2] (io), 32 P3[3] (io), 33 P3[4] (io), 34 P3[5] (io), 35 VDDIO3 (io), 36 P3[6] (io), 37 P3[7] (io), 38 P12[0] (io), 39 P12[1] (io), 40 P15[2] (io), 41 P15[3] (io)

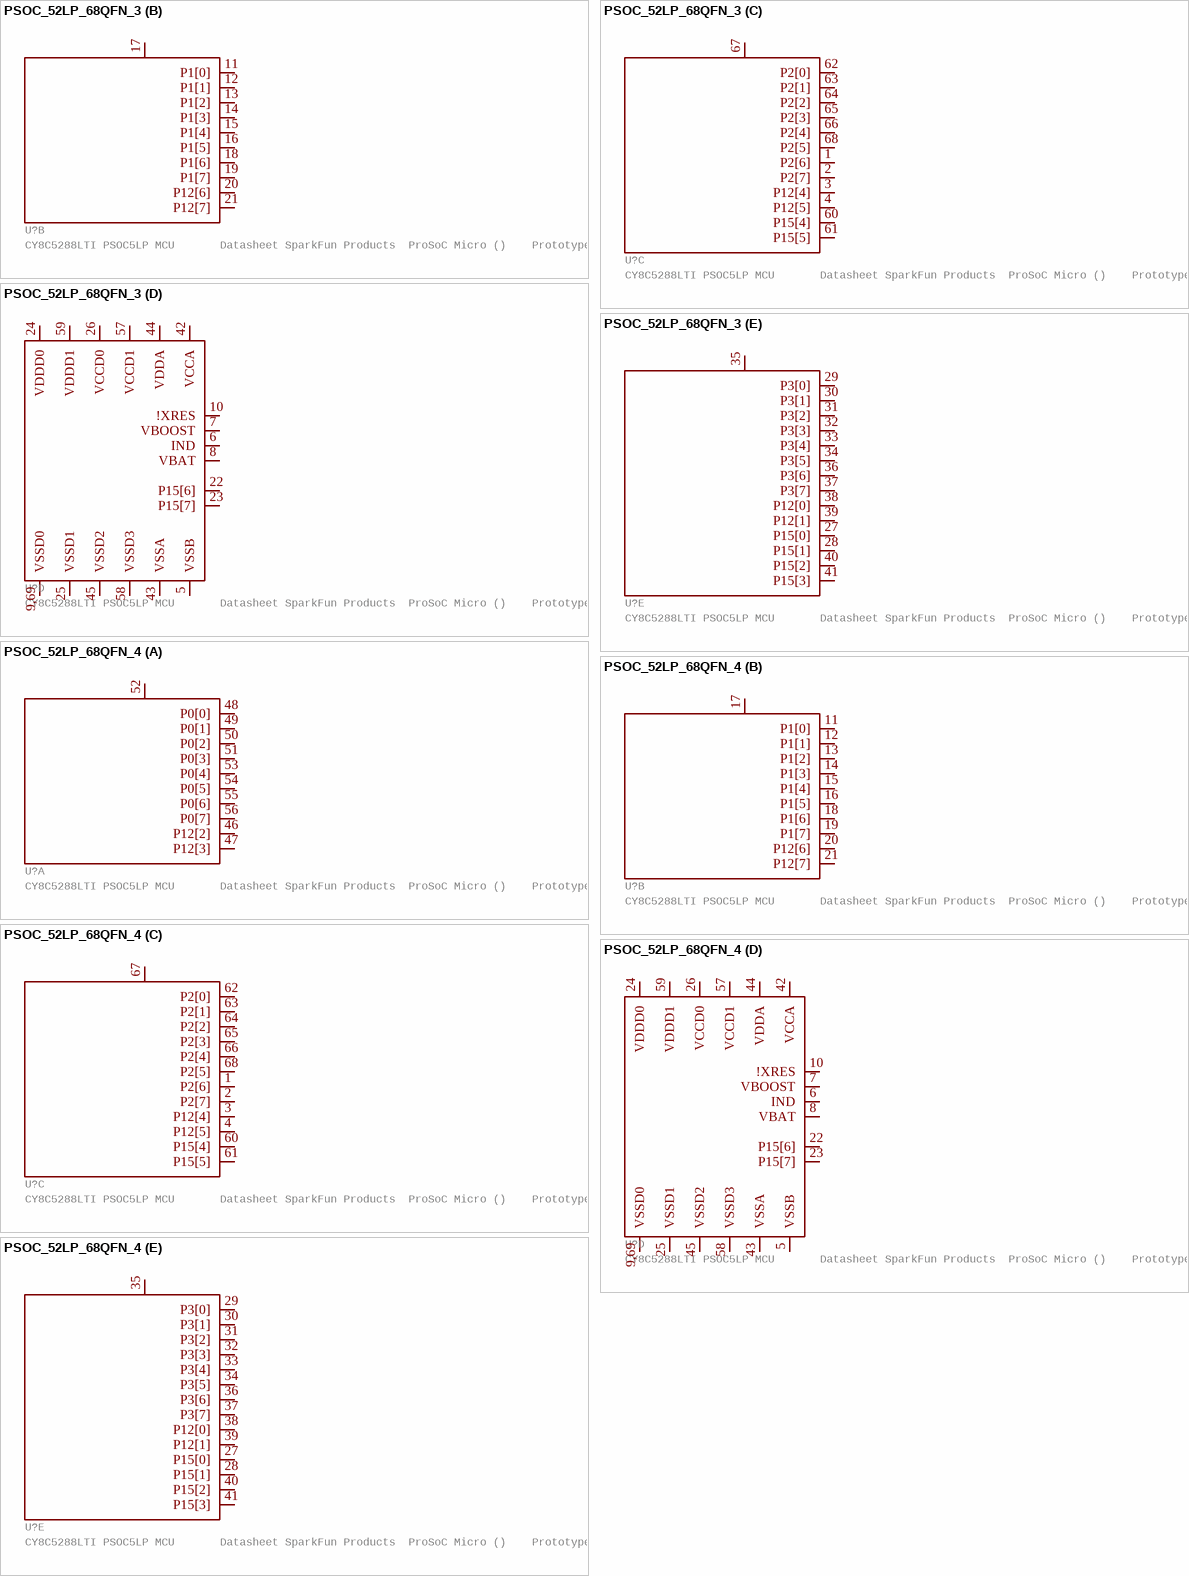
[diagram p23: symbols PSOC_52LP_68QFN_3 to PSOC_52LP_68QFN_4]

## PSOC_52LP_68QFN_3
designator U?, comment CY8C5288LTI PSOC5LP MCU       Datasheet SparkFun Products  ProSoC Micro ()    Prototype in process - do keep!
GateName_1: G1; SymbolName_1: CY8C52LP_68QFN_VDDIO0; GateName_2: G2; SymbolName_2: CY8C52LP_68QFN_VDDIO1; GateName_3: G3; SymbolName_3: CY8C52LP_68QFN_VDDIO2; GateName_4: G5; SymbolName_4: CY8C52LP_68QFN_VGLOBAL; GateName_5: G4; SymbolName_5: CY8C52LP_68QFN_VDDIO3; DeviceSetName: PSOC_52LP_68QFN; PROD_ID: IC-13261; LibraryName: SparkFun-IC-Microcontroller; Package: QFN-68
footprint QFN-68
part A pins: 46 P12[2] (io), 47 P12[3] (io), 48 P0[0] (io), 49 P0[1] (io), 50 P0[2] (io), 51 P0[3] (io), 52 VDDIO0 (io), 53 P0[4] (io), 54 P0[5] (io), 55 P0[6] (io), 56 P0[7] (io)
part B pins: 11 P1[0] (io), 12 P1[1] (io), 13 P1[2] (io), 14 P1[3] (io), 15 P1[4] (io), 16 P1[5] (io), 17 VDDIO1 (io), 18 P1[6] (io), 19 P1[7] (io), 20 P12[6] (io), 21 P12[7] (io)
part C pins: 1 P2[6] (io), 2 P2[7] (io), 3 P12[4] (io), 4 P12[5] (io), 60 P15[4] (io), 61 P15[5] (io), 62 P2[0] (io), 63 P2[1] (io), 64 P2[2] (io), 65 P2[3] (io), 66 P2[4] (io), 67 VDDIO2 (io), 68 P2[5] (io)
part D pins: 5 VSSB (io), 6 IND (io), 7 VBOOST (io), 8 VBAT (io), 9,69 VSSD0 (io), 10 !XRES (io), 22 P15[6] (io), 23 P15[7] (io), 24 VDDD0 (io), 25 VSSD1 (io), 26 VCCD0 (io), 42 VCCA (io), 43 VSSA (io), 44 VDDA (io), 45 VSSD2 (io), 57 VCCD1 (io), 58 VSSD3 (io), 59 VDDD1 (io)
part E pins: 27 P15[0] (io), 28 P15[1] (io), 29 P3[0] (io), 30 P3[1] (io), 31 P3[2] (io), 32 P3[3] (io), 33 P3[4] (io), 34 P3[5] (io), 35 VDDIO3 (io), 36 P3[6] (io), 37 P3[7] (io), 38 P12[0] (io), 39 P12[1] (io), 40 P15[2] (io), 41 P15[3] (io)

## PSOC_52LP_68QFN_4
designator U?, comment CY8C5288LTI PSOC5LP MCU       Datasheet SparkFun Products  ProSoC Micro ()    Prototype in process - do keep!
GateName_1: G1; SymbolName_1: CY8C52LP_68QFN_VDDIO0; GateName_2: G2; SymbolName_2: CY8C52LP_68QFN_VDDIO1; GateName_3: G3; SymbolName_3: CY8C52LP_68QFN_VDDIO2; GateName_4: G5; SymbolName_4: CY8C52LP_68QFN_VGLOBAL; GateName_5: G4; SymbolName_5: CY8C52LP_68QFN_VDDIO3; DeviceSetName: PSOC_52LP_68QFN; PROD_ID: IC-13261; LibraryName: SparkFun-IC-Microcontroller; Package: QFN-68
footprint QFN-68
part A pins: 46 P12[2] (io), 47 P12[3] (io), 48 P0[0] (io), 49 P0[1] (io), 50 P0[2] (io), 51 P0[3] (io), 52 VDDIO0 (io), 53 P0[4] (io), 54 P0[5] (io), 55 P0[6] (io), 56 P0[7] (io)
part B pins: 11 P1[0] (io), 12 P1[1] (io), 13 P1[2] (io), 14 P1[3] (io), 15 P1[4] (io), 16 P1[5] (io), 17 VDDIO1 (io), 18 P1[6] (io), 19 P1[7] (io), 20 P12[6] (io), 21 P12[7] (io)
part C pins: 1 P2[6] (io), 2 P2[7] (io), 3 P12[4] (io), 4 P12[5] (io), 60 P15[4] (io), 61 P15[5] (io), 62 P2[0] (io), 63 P2[1] (io), 64 P2[2] (io), 65 P2[3] (io), 66 P2[4] (io), 67 VDDIO2 (io), 68 P2[5] (io)
part D pins: 5 VSSB (io), 6 IND (io), 7 VBOOST (io), 8 VBAT (io), 9,69 VSSD0 (io), 10 !XRES (io), 22 P15[6] (io), 23 P15[7] (io), 24 VDDD0 (io), 25 VSSD1 (io), 26 VCCD0 (io), 42 VCCA (io), 43 VSSA (io), 44 VDDA (io), 45 VSSD2 (io), 57 VCCD1 (io), 58 VSSD3 (io), 59 VDDD1 (io)
part E pins: 27 P15[0] (io), 28 P15[1] (io), 29 P3[0] (io), 30 P3[1] (io), 31 P3[2] (io), 32 P3[3] (io), 33 P3[4] (io), 34 P3[5] (io), 35 VDDIO3 (io), 36 P3[6] (io), 37 P3[7] (io), 38 P12[0] (io), 39 P12[1] (io), 40 P15[2] (io), 41 P15[3] (io)

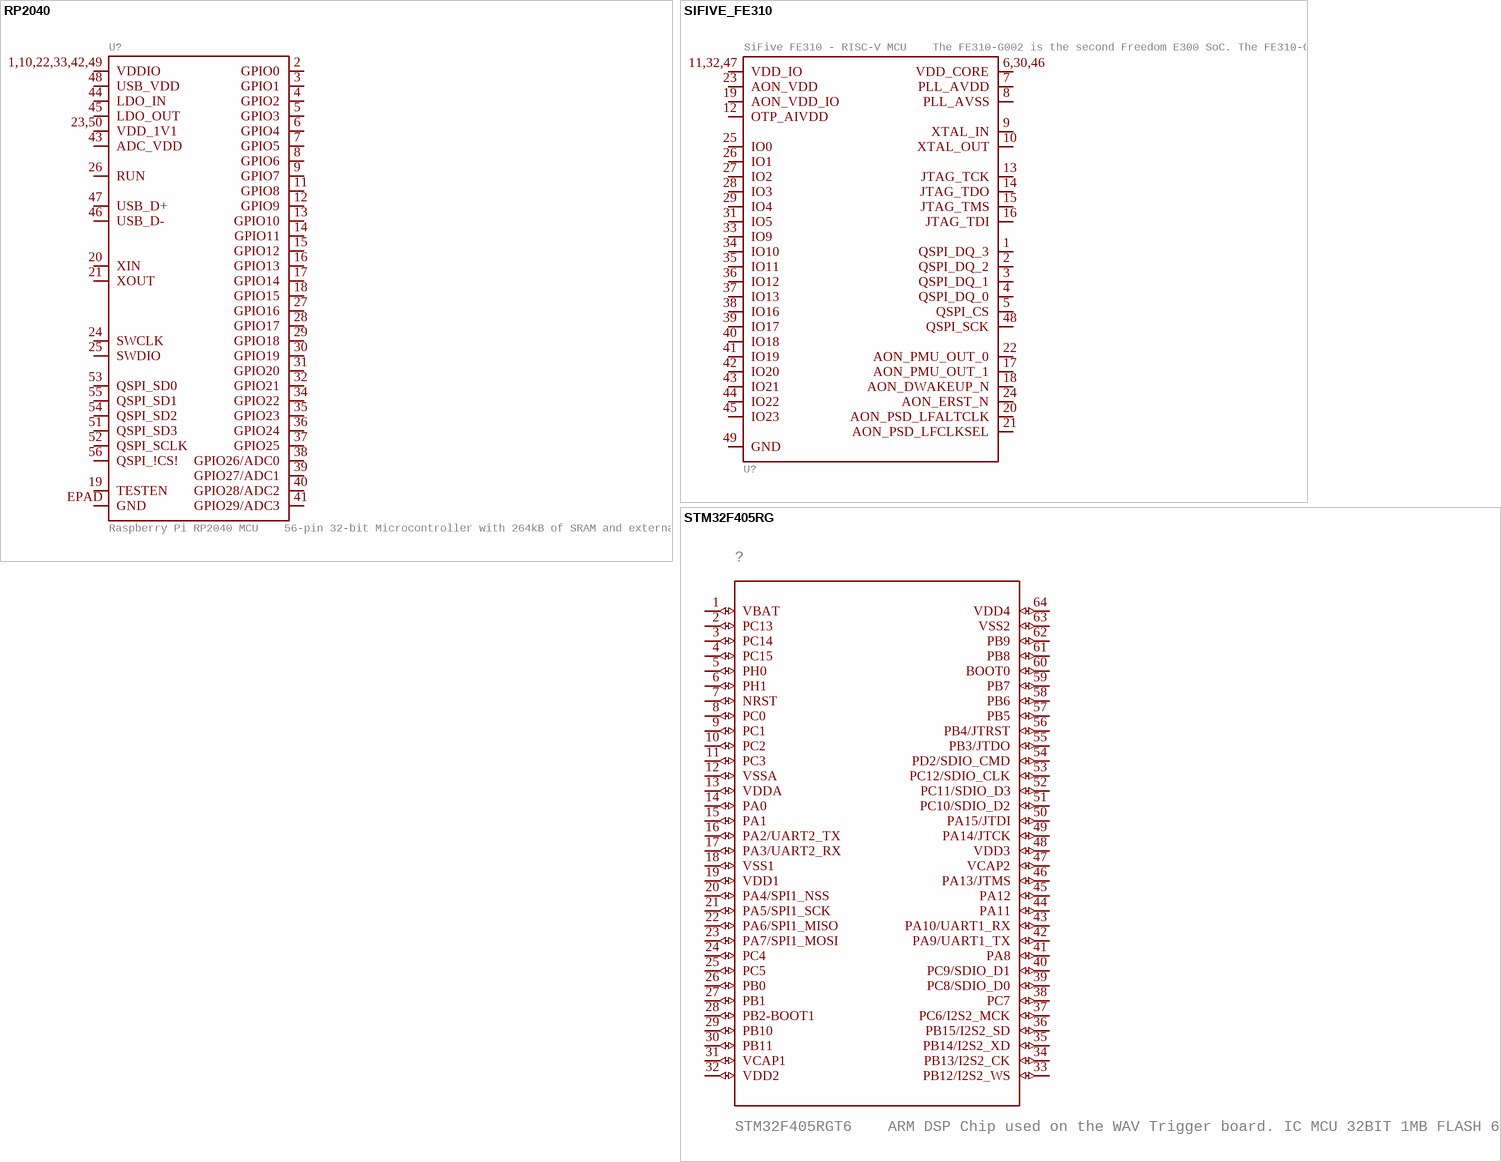
[diagram p24: symbols RP2040 to STM32F405RG]

## RP2040
designator U?, comment Raspberry Pi RP2040 MCU    56-pin 32-bit Microcontroller with 264kB of SRAM and external flash support up to 16MB   Getting Started with the RP2040 Dual-core ARM Cortex M0+ processor, flexible clock running up to 133 MHz    264kB of SRAM, and QSPI control of common flash memory    USB 1.1 Host and Device support    Low-power sleep and dormant modes    Drag & drop programming using mass storage over USB    26 multi-function GPIO pins    2Ã—SPI, 2Ã—I2C, 2Ã—UART, 3Ã—12-bit ADC, 16Ã—controllable PWM channels    Accurate clock and timer on-chip    Temperature sensor    Accelerated floating point libraries on-chip    8Ã—Programmable IO (PIO) state machines for custom peripheral support
GateName_1: U1; PROD_ID: IC-15502; SymbolName_1: RP2040; LibraryName: SparkFun-IC-Microcontroller; DeviceSetName: RP2040; Package: QFN-56
footprint QFN-56
pins: 1,10,22,33,42,49 VDDIO (io), 2 GPIO0 (io), 3 GPIO1 (io), 4 GPIO2 (io), 5 GPIO3 (io), 6 GPIO4 (io), 7 GPIO5 (io), 8 GPIO6 (io), 9 GPIO7 (io), 11 GPIO8 (io), 12 GPIO9 (io), 13 GPIO10 (io), 14 GPIO11 (io), 15 GPIO12 (io), 16 GPIO13 (io), 17 GPIO14 (io), 18 GPIO15 (io), 19 TESTEN (io), 20 XIN (io), 21 XOUT (io), 23,50 VDD_1V1 (io), 24 SWCLK (io), 25 SWDIO (io), 26 RUN (io), 27 GPIO16 (io), 28 GPIO17 (io), 29 GPIO18 (io), 30 GPIO19 (io), 31 GPIO20 (io), 32 GPIO21 (io), 34 GPIO22 (io), 35 GPIO23 (io), 36 GPIO24 (io), 37 GPIO25 (io), 38 GPIO26/ADC0 (io), 39 GPIO27/ADC1 (io), 40 GPIO28/ADC2 (io), 41 GPIO29/ADC3 (io), 43 ADC_VDD (io), 44 LDO_IN (io), 45 LDO_OUT (io), 46 USB_D- (io), 47 USB_D+ (io), 48 USB_VDD (io), 51 QSPI_SD3 (io), 52 QSPI_SCLK (io), 53 QSPI_SD0 (io), 54 QSPI_SD2 (io), 55 QSPI_SD1 (io), 56 QSPI_!CS! (io), EPAD GND (io)

## SIFIVE_FE310
designator U?, comment SiFive FE310 - RISC-V MCU    The FE310-G002 is the second Freedom E300 SoC. The FE310-G002 is built around the E31 Core Complex instantiated in the Freedom E300 platform.   SparkFun Products: [PRODUCT 1]
GateName_1: G$1; DeviceSetName: SIFIVE_FE310; PROD_ID: IC-14494; SymbolName_1: FE310; LibraryName: SparkFun-IC-Microcontroller; Package: QFN-48-.4MMPITCH
footprint QFN-48-.4MMPITCH
pins: 1 QSPI_DQ_3 (io), 2 QSPI_DQ_2 (io), 3 QSPI_DQ_1 (io), 4 QSPI_DQ_0 (io), 5 QSPI_CS (io), 6,30,46 VDD_CORE (io), 7 PLL_AVDD (io), 8 PLL_AVSS (io), 9 XTAL_IN (io), 10 XTAL_OUT (io), 11,32,47 VDD_IO (io), 12 OTP_AIVDD (io), 13 JTAG_TCK (io), 14 JTAG_TDO (io), 15 JTAG_TMS (io), 16 JTAG_TDI (io), 17 AON_PMU_OUT_1 (io), 18 AON_DWAKEUP_N (io), 19 AON_VDD_IO (io), 20 AON_PSD_LFALTCLK (io), 21 AON_PSD_LFCLKSEL (io), 22 AON_PMU_OUT_0 (io), 23 AON_VDD (io), 24 AON_ERST_N (io), 25 IO0 (io), 26 IO1 (io), 27 IO2 (io), 28 IO3 (io), 29 IO4 (io), 31 IO5 (io), 33 IO9 (io), 34 IO10 (io), 35 IO11 (io), 36 IO12 (io), 37 IO13 (io), 38 IO16 (io), 39 IO17 (io), 40 IO18 (io), 41 IO19 (io), 42 IO20 (io), 43 IO21 (io), 44 IO22 (io), 45 IO23 (io), 48 QSPI_SCK (io), 49 GND (io)

## STM32F405RG
designator ?, comment STM32F405RGT6    ARM DSP Chip used on the WAV Trigger board. IC MCU 32BIT 1MB FLASH 64LQFP   Datasheet SparkFun Products  WAV Trigger (WIG-13660)
GateName_1: G$1; PROD_ID: IC-11709; SymbolName_1: STM32F405RG; LibraryName: SparkFun-IC-Microcontroller; DeviceSetName: STM32F405RG; Package: TQFP64
footprint TQFP64
pins: 1 VBAT (io), 2 PC13 (io), 3 PC14 (io), 4 PC15 (io), 5 PH0 (io), 6 PH1 (io), 7 NRST (io), 8 PC0 (io), 9 PC1 (io), 10 PC2 (io), 11 PC3 (io), 12 VSSA (io), 13 VDDA (io), 14 PA0 (io), 15 PA1 (io), 16 PA2/UART2_TX (io), 17 PA3/UART2_RX (io), 18 VSS1 (io), 19 VDD1 (io), 20 PA4/SPI1_NSS (io), 21 PA5/SPI1_SCK (io), 22 PA6/SPI1_MISO (io), 23 PA7/SPI1_MOSI (io), 24 PC4 (io), 25 PC5 (io), 26 PB0 (io), 27 PB1 (io), 28 PB2-BOOT1 (io), 29 PB10 (io), 30 PB11 (io), 31 VCAP1 (io), 32 VDD2 (io), 33 PB12/I2S2_WS (io), 34 PB13/I2S2_CK (io), 35 PB14/I2S2_XD (io), 36 PB15/I2S2_SD (io), 37 PC6/I2S2_MCK (io), 38 PC7 (io), 39 PC8/SDIO_D0 (io), 40 PC9/SDIO_D1 (io), 41 PA8 (io), 42 PA9/UART1_TX (io), 43 PA10/UART1_RX (io), 44 PA11 (io), 45 PA12 (io), 46 PA13/JTMS (io), 47 VCAP2 (io), 48 VDD3 (io), 49 PA14/JTCK (io), 50 PA15/JTDI (io), 51 PC10/SDIO_D2 (io), 52 PC11/SDIO_D3 (io), 53 PC12/SDIO_CLK (io), 54 PD2/SDIO_CMD (io), 55 PB3/JTDO (io), 56 PB4/JTRST (io), 57 PB5 (io), 58 PB6 (io), 59 PB7 (io), 60 BOOT0 (io), 61 PB8 (io), 62 PB9 (io), 63 VSS2 (io), 64 VDD4 (io)